# EAGLE library part MCP73844 (library custom)
IC Li-Ion Charger Linear IC 8.4V
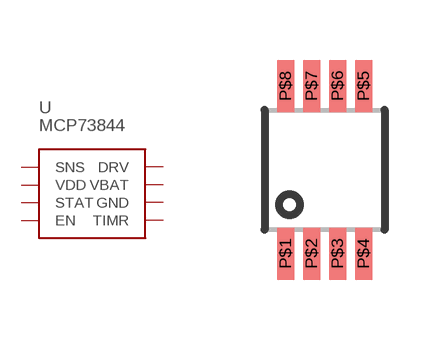
[diagram p44: symbol with the pads of 8-MSOP; footprint 8-MSOP]

Designator prefix U

## MCP73844  [8-MSOP]
P$1  SNS
P$2  VDD
P$3  STAT
P$4  EN
P$5  TIMR
P$6  GND
P$7  VBAT
P$8  DRV

## Footprint 8-MSOP (pad centres in mm)
smd 0.425 x 1.3: P$1 -0.975,-2.1; P$2 -0.325,-2.1; P$3 0.325,-2.1; P$4 0.975,-2.1; P$5 0.975,2.1; P$6 0.325,2.1; P$7 -0.325,2.1; P$8 -0.975,2.1